# Altium schematic symbol library 晶振.SchLib: 1 symbol
Pins are listed as number, name and electrical type; pins without a type are passive.

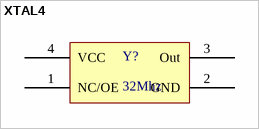
[diagram p0: symbol XTAL4]

## XTAL4
designator Y?, comment 32Mhz
footprint SMDXTAL5032
pins: 1 NC/OE, 2 GND, 3 Out, 4 VCC